# Altium integrated library Analog Devices Data Converters Analog-to-Digital Converters.IntLib: 2404 symbols (part 85 of 346)
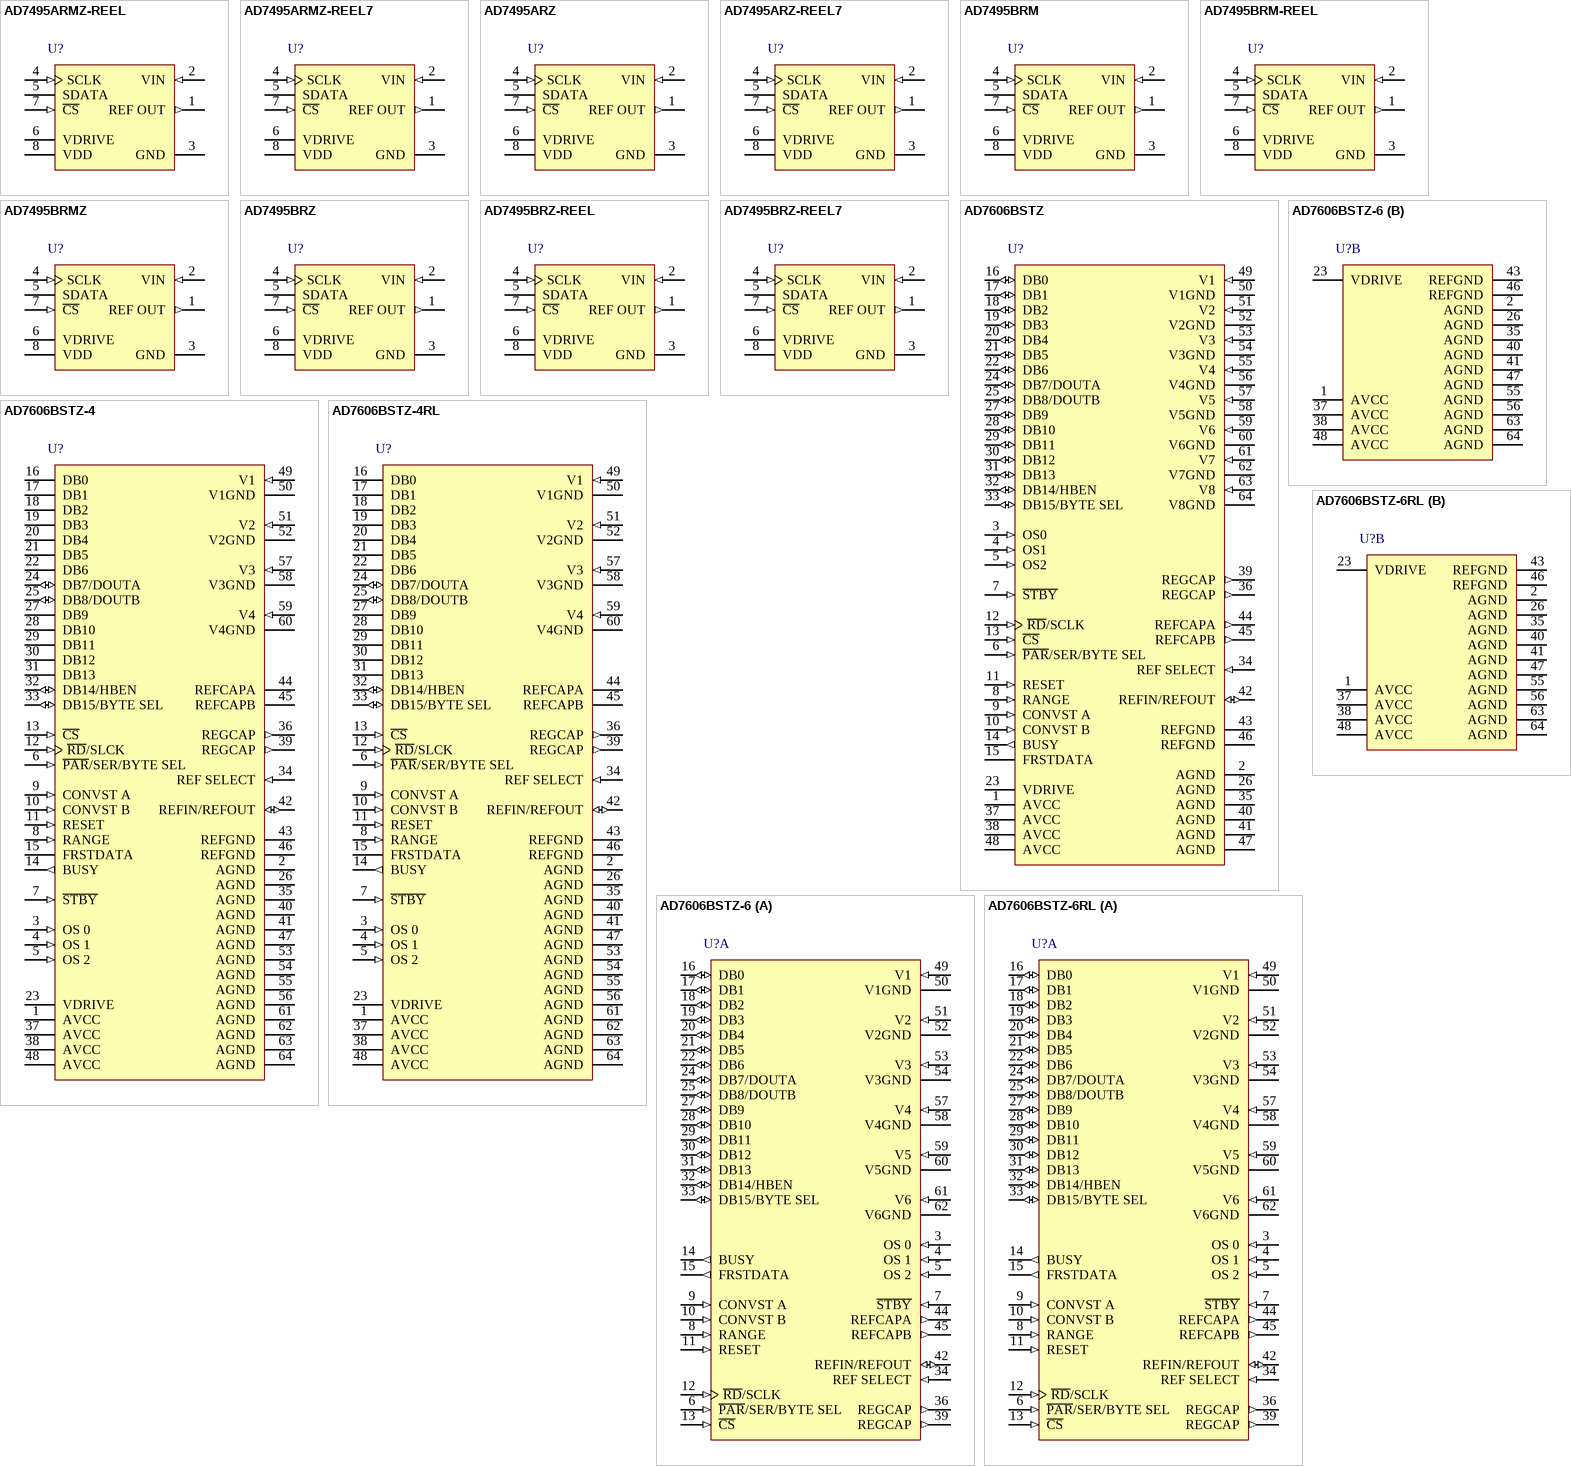
[diagram p300: symbols AD7495ARMZ-REEL to AD7606BSTZ-6RL]

## AD7495ARZ
designator U?
Single 12-Bit Analog-to-Digital Converter with Serial, SPI Interface, 1MSPS, -40 to +85 degC, R-8, Pb-Free, Tube; Generic Part Number: AD7495; Manufacturer: Analog Devices; PartNumber: AD7495ARZ; Resolution (Bits): 12; Channels: 1; Throughput Rate (SPS): 1M; Interface: Ser, SPI; DatasheetVersion: Rev.B; PackageVersion: 060506-A; PackageReference: R-8; PackageDescription: 8-Lead Standard Small Outline Package [SOIC_N] Narrow Body; Supplier 1: Digi-Key; Supplier Part Number 1: AD7495ARZ-ND; Supplier 2: Farnell; Supplier Part Number 2: 1079345; Supplier 3: Newark; Supplier Part Number 3: 59K4953; Supplier 4: Newark; Supplier Part Number 4: 31M4270; Supplier 5: Mouser; Supplier Part Number 5: 584-AD7495ARZ; RoHS: Y; Packing: Tube; Mounting Technology: Surface Mount; Code_JEDEC: MS-012-AA; Code_IPC: SOIC127P600-8; ComponentLink1Description: Manufacturer URL; ComponentLink1URL: http://www.analog.com/en/index.html; ComponentLink2Description: Datasheet; ComponentLink2URL: http://www.analog.com/static/imported-files/data_sheets/AD7475_7495.pdf; ComponentLink3Description: Package Specification; ComponentLink3URL: http://www.analog.com/static/imported-files/packages/PKG_PDF/SOIC_Narrow%20(R)/R_8.pdf; ComponentLink4Description: Product URL; ComponentLink4URL: http://www.analog.com/en/analog-to-digital-converters/ad-converters/ad7495/products/product.html
footprint R-8_N (SOIC, 8-Leads, Body 4.9x3.9mm, Pitch 1.27mm, IPC Medium Density)
footprint R-8_L (SOIC, 8-Leads, Body 4.9x3.9mm, Pitch 1.27mm, IPC High Density)
footprint R-8_M (SOIC, 8-Leads, Body 4.9x3.9mm, Pitch 1.27mm, IPC Low Density)
pins: 1 REF OUT (out) "Reference Output for the AD7495. A minimum 100 nF capacitance is required from this pin to GND. The internal reference can be taken from this pin, but buffering is required before it is applied elsewhere in a system.", 2 VIN (in) "Analog Input. Single-ended analog input channel. The input range is 0 to REF IN.", 3 GND (power) "Analog Ground. Ground reference point for all circuitry on the AD7475/AD7495. All analog input signals and any external reference signal should be referred to this GND voltage.", 4 SCLK (in) "Serial Clock, Logic Input. SCLK provides the serial clock for accessing data from the part. This clock input is also used as the clock source for the AD7475/AD7495 conversion process.", 5 SDATA (hiz) "Data Out, Logic Output. The conversion result from the AD7475/AD7495 is provided on this output as a serial data stream. The bits are clocked out on the falling edge of the SCLK input. The data stream consists of four (See Datasheet)", 6 VDRIVE (power) "Logic Power Supply Input. The voltage supplied at this pin determines the operating voltage for the serial interface of the AD7475/AD7495.", 7 ~{CS} (in) "Chip Select, Active Low Logic Input. This input provides the dual function of initiating conversions on the AD7475/AD7495 and also frames the serial data transfer.", 8 VDD (power) "Power Supply Input. The VDD range for the AD7475/AD7495 is from 2.7 V to 5.25 V."

## AD7495ARZ-REEL7
designator U?
Single 12-Bit Analog-to-Digital Converter with Serial, SPI Interface, 1MSPS, 0 to +70 degC, R-8, Pb-Free, Reel; Generic Part Number: AD7495; Manufacturer: Analog Devices; PartNumber: AD7495ARZ-REEL7; Resolution (Bits): 12; Channels: 1; Throughput Rate (SPS): 1M; Interface: Ser, SPI; DatasheetVersion: Rev.B; PackageVersion: 060506-A; PackageReference: R-8; PackageDescription: 8-Lead Standard Small Outline Package [SOIC_N] Narrow Body; Supplier 1: Digi-Key; Supplier Part Number 1: AD7495ARZ-REEL7-ND; Supplier 2: Newark; Supplier Part Number 2: 59K4954; Supplier 3: Mouser; Supplier Part Number 3: 584-AD7495ARZ-R7; RoHS: Y; Packing: Reel; Mounting Technology: Surface Mount; Code_JEDEC: MS-012-AA; Code_IPC: SOIC127P600-8; ComponentLink1Description: Manufacturer URL; ComponentLink1URL: http://www.analog.com/en/index.html; ComponentLink2Description: Datasheet; ComponentLink2URL: http://www.analog.com/static/imported-files/data_sheets/AD7475_7495.pdf; ComponentLink3Description: Package Specification; ComponentLink3URL: http://www.analog.com/static/imported-files/packages/PKG_PDF/SOIC_Narrow%20(R)/R_8.pdf; ComponentLink4Description: Product URL; ComponentLink4URL: http://www.analog.com/en/analog-to-digital-converters/ad-converters/ad7495/products/product.html
footprint R-8_N (SOIC, 8-Leads, Body 4.9x3.9mm, Pitch 1.27mm, IPC Medium Density)
footprint R-8_L (SOIC, 8-Leads, Body 4.9x3.9mm, Pitch 1.27mm, IPC High Density)
footprint R-8_M (SOIC, 8-Leads, Body 4.9x3.9mm, Pitch 1.27mm, IPC Low Density)
pins: 1 REF OUT (out) "Reference Output for the AD7495. A minimum 100 nF capacitance is required from this pin to GND. The internal reference can be taken from this pin, but buffering is required before it is applied elsewhere in a system.", 2 VIN (in) "Analog Input. Single-ended analog input channel. The input range is 0 to REF IN.", 3 GND (power) "Analog Ground. Ground reference point for all circuitry on the AD7475/AD7495. All analog input signals and any external reference signal should be referred to this GND voltage.", 4 SCLK (in) "Serial Clock, Logic Input. SCLK provides the serial clock for accessing data from the part. This clock input is also used as the clock source for the AD7475/AD7495 conversion process.", 5 SDATA (hiz) "Data Out, Logic Output. The conversion result from the AD7475/AD7495 is provided on this output as a serial data stream. The bits are clocked out on the falling edge of the SCLK input. The data stream consists of four (See Datasheet)", 6 VDRIVE (power) "Logic Power Supply Input. The voltage supplied at this pin determines the operating voltage for the serial interface of the AD7475/AD7495.", 7 ~{CS} (in) "Chip Select, Active Low Logic Input. This input provides the dual function of initiating conversions on the AD7475/AD7495 and also frames the serial data transfer.", 8 VDD (power) "Power Supply Input. The VDD range for the AD7475/AD7495 is from 2.7 V to 5.25 V."

## AD7495BRM
designator U?
Single 12-Bit Analog-to-Digital Converter with Serial, SPI Interface, 1MSPS, -40 to +85 degC, RM-8, Tube; Generic Part Number: AD7495; Manufacturer: Analog Devices; PartNumber: AD7495BRM; Resolution (Bits): 12; Channels: 1; Throughput Rate (SPS): 1M; Interface: Ser, SPI; DatasheetVersion: Rev.B; PackageVersion: Aug-2005; PackageReference: RM-8; PackageDescription: 8-Lead Mini Small Outline Package [MSOP]; Supplier 1: Digi-Key; Supplier Part Number 1: AD7495BRM-ND; RoHS: N; Packing: Tube; Mounting Technology: Surface Mount; Code_JEDEC: MO-187-AA; ComponentLink1Description: Manufacturer URL; ComponentLink1URL: http://www.analog.com/en/index.html; ComponentLink2Description: Datasheet; ComponentLink2URL: http://www.analog.com/static/imported-files/data_sheets/AD7475_7495.pdf; ComponentLink3Description: Package Specification; ComponentLink3URL: http://www.analog.com/static/imported-files/packages/PKG_PDF/MSOP%28RM%29/RM_8.pdf; ComponentLink4Description: Product URL; ComponentLink4URL: http://www.analog.com/en/analog-to-digital-converters/ad-converters/ad7495/products/product.html
footprint RM-8_N (TSOP, 8-Leads, Body 3x3mm, Pitch 0.65mm, IPC Medium Density)
footprint RM-8_L (TSOP, 8-Leads, Body 3x3mm, Pitch 0.65mm, IPC High Density)
footprint RM-8_M (TSOP, 8-Leads, Body 3x3mm, Pitch 0.65mm, IPC Low Density)
pins: 1 REF OUT (out) "Reference Output for the AD7495. A minimum 100 nF capacitance is required from this pin to GND. The internal reference can be taken from this pin, but buffering is required before it is applied elsewhere in a system.", 2 VIN (in) "Analog Input. Single-ended analog input channel. The input range is 0 to REF IN.", 3 GND (power) "Analog Ground. Ground reference point for all circuitry on the AD7475/AD7495. All analog input signals and any external reference signal should be referred to this GND voltage.", 4 SCLK (in) "Serial Clock, Logic Input. SCLK provides the serial clock for accessing data from the part. This clock input is also used as the clock source for the AD7475/AD7495 conversion process.", 5 SDATA (hiz) "Data Out, Logic Output. The conversion result from the AD7475/AD7495 is provided on this output as a serial data stream. The bits are clocked out on the falling edge of the SCLK input. The data stream consists of four (See Datasheet)", 6 VDRIVE (power) "Logic Power Supply Input. The voltage supplied at this pin determines the operating voltage for the serial interface of the AD7475/AD7495.", 7 ~{CS} (in) "Chip Select, Active Low Logic Input. This input provides the dual function of initiating conversions on the AD7475/AD7495 and also frames the serial data transfer.", 8 VDD (power) "Power Supply Input. The VDD range for the AD7475/AD7495 is from 2.7 V to 5.25 V."

## AD7495BRM-REEL
designator U?
Single 12-Bit Analog-to-Digital Converter with Serial, SPI Interface, 1MSPS, -40 to +85 degC, RM-8, Reel; Generic Part Number: AD7495; Manufacturer: Analog Devices; PartNumber: AD7495BRM-REEL; Resolution (Bits): 12; Channels: 1; Throughput Rate (SPS): 1M; Interface: Ser, SPI; DatasheetVersion: Rev.B; PackageVersion: Aug-2005; PackageReference: RM-8; PackageDescription: 8-Lead Mini Small Outline Package [MSOP]; Supplier 1: Digi-Key; Supplier Part Number 1: AD7495BRM-REELTR-ND; Supplier 2: Digi-Key; Supplier Part Number 2: AD7495BRM-REELCT-ND; Supplier 3: Digi-Key; Supplier Part Number 3: AD7495BRM-REELDKR-ND; Supplier 4: Newark; Supplier Part Number 4: 02H1689; Supplier 5: Mouser; Supplier Part Number 5: 584-AD7495BRM-R; RoHS: N; Packing: Reel; Mounting Technology: Surface Mount; Code_JEDEC: MO-187-AA; ComponentLink1Description: Manufacturer URL; ComponentLink1URL: http://www.analog.com/en/index.html; ComponentLink2Description: Datasheet; ComponentLink2URL: http://www.analog.com/static/imported-files/data_sheets/AD7475_7495.pdf; ComponentLink3Description: Package Specification; ComponentLink3URL: http://www.analog.com/static/imported-files/packages/PKG_PDF/MSOP%28RM%29/RM_8.pdf; ComponentLink4Description: Product URL; ComponentLink4URL: http://www.analog.com/en/analog-to-digital-converters/ad-converters/ad7495/products/product.html
footprint RM-8_N (TSOP, 8-Leads, Body 3x3mm, Pitch 0.65mm, IPC Medium Density)
footprint RM-8_L (TSOP, 8-Leads, Body 3x3mm, Pitch 0.65mm, IPC High Density)
footprint RM-8_M (TSOP, 8-Leads, Body 3x3mm, Pitch 0.65mm, IPC Low Density)
pins: 1 REF OUT (out) "Reference Output for the AD7495. A minimum 100 nF capacitance is required from this pin to GND. The internal reference can be taken from this pin, but buffering is required before it is applied elsewhere in a system.", 2 VIN (in) "Analog Input. Single-ended analog input channel. The input range is 0 to REF IN.", 3 GND (power) "Analog Ground. Ground reference point for all circuitry on the AD7475/AD7495. All analog input signals and any external reference signal should be referred to this GND voltage.", 4 SCLK (in) "Serial Clock, Logic Input. SCLK provides the serial clock for accessing data from the part. This clock input is also used as the clock source for the AD7475/AD7495 conversion process.", 5 SDATA (hiz) "Data Out, Logic Output. The conversion result from the AD7475/AD7495 is provided on this output as a serial data stream. The bits are clocked out on the falling edge of the SCLK input. The data stream consists of four (See Datasheet)", 6 VDRIVE (power) "Logic Power Supply Input. The voltage supplied at this pin determines the operating voltage for the serial interface of the AD7475/AD7495.", 7 ~{CS} (in) "Chip Select, Active Low Logic Input. This input provides the dual function of initiating conversions on the AD7475/AD7495 and also frames the serial data transfer.", 8 VDD (power) "Power Supply Input. The VDD range for the AD7475/AD7495 is from 2.7 V to 5.25 V."

## AD7495BRMZ
designator U?
Single 12-Bit Analog-to-Digital Converter with Serial, SPI Interface, 1MSPS, -40 to +85 degC, RM-8, Pb-Free, Tube; Generic Part Number: AD7495; Manufacturer: Analog Devices; PartNumber: AD7495BRMZ; Resolution (Bits): 12; Channels: 1; Throughput Rate (SPS): 1M; Interface: Ser, SPI; DatasheetVersion: Rev.B; PackageVersion: Aug-2005; PackageReference: RM-8; PackageDescription: 8-Lead Mini Small Outline Package [MSOP]; Supplier 1: Digi-Key; Supplier Part Number 1: AD7495BRMZ-ND; Supplier 2: Newark; Supplier Part Number 2: 59K4955; Supplier 3: Mouser; Supplier Part Number 3: 584-AD7495BRMZ; RoHS: Y; Packing: Tube; Mounting Technology: Surface Mount; Code_JEDEC: MO-187-AA; ComponentLink1Description: Manufacturer URL; ComponentLink1URL: http://www.analog.com/en/index.html; ComponentLink2Description: Datasheet; ComponentLink2URL: http://www.analog.com/static/imported-files/data_sheets/AD7475_7495.pdf; ComponentLink3Description: Package Specification; ComponentLink3URL: http://www.analog.com/static/imported-files/packages/PKG_PDF/MSOP%28RM%29/RM_8.pdf; ComponentLink4Description: Product URL; ComponentLink4URL: http://www.analog.com/en/analog-to-digital-converters/ad-converters/ad7495/products/product.html
footprint RM-8_N (TSOP, 8-Leads, Body 3x3mm, Pitch 0.65mm, IPC Medium Density)
footprint RM-8_L (TSOP, 8-Leads, Body 3x3mm, Pitch 0.65mm, IPC High Density)
footprint RM-8_M (TSOP, 8-Leads, Body 3x3mm, Pitch 0.65mm, IPC Low Density)
pins: 1 REF OUT (out) "Reference Output for the AD7495. A minimum 100 nF capacitance is required from this pin to GND. The internal reference can be taken from this pin, but buffering is required before it is applied elsewhere in a system.", 2 VIN (in) "Analog Input. Single-ended analog input channel. The input range is 0 to REF IN.", 3 GND (power) "Analog Ground. Ground reference point for all circuitry on the AD7475/AD7495. All analog input signals and any external reference signal should be referred to this GND voltage.", 4 SCLK (in) "Serial Clock, Logic Input. SCLK provides the serial clock for accessing data from the part. This clock input is also used as the clock source for the AD7475/AD7495 conversion process.", 5 SDATA (hiz) "Data Out, Logic Output. The conversion result from the AD7475/AD7495 is provided on this output as a serial data stream. The bits are clocked out on the falling edge of the SCLK input. The data stream consists of four (See Datasheet)", 6 VDRIVE (power) "Logic Power Supply Input. The voltage supplied at this pin determines the operating voltage for the serial interface of the AD7475/AD7495.", 7 ~{CS} (in) "Chip Select, Active Low Logic Input. This input provides the dual function of initiating conversions on the AD7475/AD7495 and also frames the serial data transfer.", 8 VDD (power) "Power Supply Input. The VDD range for the AD7475/AD7495 is from 2.7 V to 5.25 V."